# EAGLE library part HUCONN (library PC-Engine)
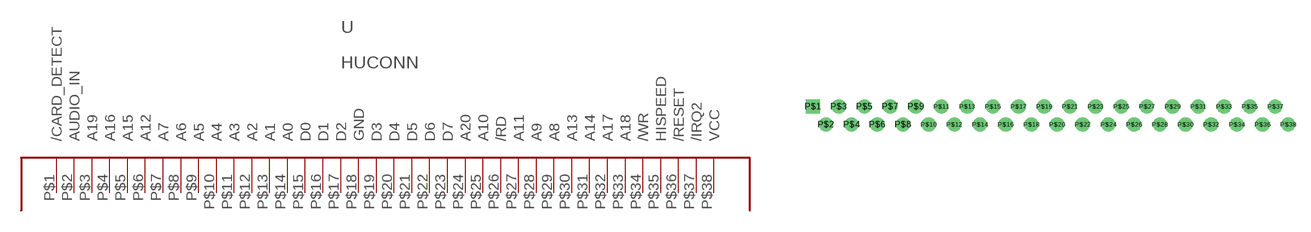
[diagram p4: symbol with the pads of HUCONN; footprint HUCONN]

Designator prefix -

## HUCONN  [HUCONN]
P$1  /CARD_DETECT  in
P$2  AUDIO_IN  in
P$3  A19  out
P$4  A16  out
P$5  A15  out
P$6  A12  out
P$7  A7  out
P$8  A6  out
P$9  A5  out
P$10  A4  out
P$11  A3  out
P$12  A2  out
P$13  A1  out
P$14  A0  out
P$15  D0
P$16  D1
P$17  D2
P$18  GND  sup
P$19  D3
P$20  D4
P$21  D5
P$22  D6
P$23  D7
P$24  A20  out
P$25  A10  out
P$26  /RD  out
P$27  A11  out
P$28  A9  out
P$29  A8  out
P$30  A13  out
P$31  A14  out
P$32  A17  out
P$33  A18  out
P$34  /WR  out
P$35  HISPEED  out
P$36  /RESET
P$37  /IRQ2
P$38  VCC  sup

## Footprint HUCONN (pad centres in mm)
drill 0.9 square: P$1 1.27,0
drill 0.9: P$2 2.54,-1.778; P$3 3.81,0; P$4 5.08,-1.778; P$5 6.35,0; P$6 7.62,-1.778; P$7 8.89,0; P$8 10.16,-1.778; P$9 11.43,0; P$10 12.7,-1.778; P$11 13.97,0; P$12 15.24,-1.778; P$13 16.51,0; P$14 17.78,-1.778; P$15 19.05,0; P$16 20.32,-1.778; P$17 21.59,0; P$18 22.86,-1.778; P$19 24.13,0; P$20 25.4,-1.778; P$21 26.67,0; P$22 27.94,-1.778; P$23 29.21,0; P$24 30.48,-1.778; P$25 31.75,0; P$26 33.02,-1.778; P$27 34.29,0; P$28 35.56,-1.778; P$29 36.83,0; P$30 38.1,-1.778; P$31 39.37,0; P$32 40.64,-1.778; P$33 41.91,0; P$34 43.18,-1.778; P$35 44.45,0; P$36 45.72,-1.778; P$37 46.99,0; P$38 48.26,-1.778